# Altium footprint library PCB封装库.PcbLib: 54 footprints (part 3 of 4)
Each footprint in its own frame and in the unit in brackets; x right, y up, seen from the top. Pads: shape width x height; smd on the part's side, far side on the other; paste and mask are expansions set on the pad; w line width, h text height; cw(c..) or ccw(c..) is an arc to the next point about the centre after c.
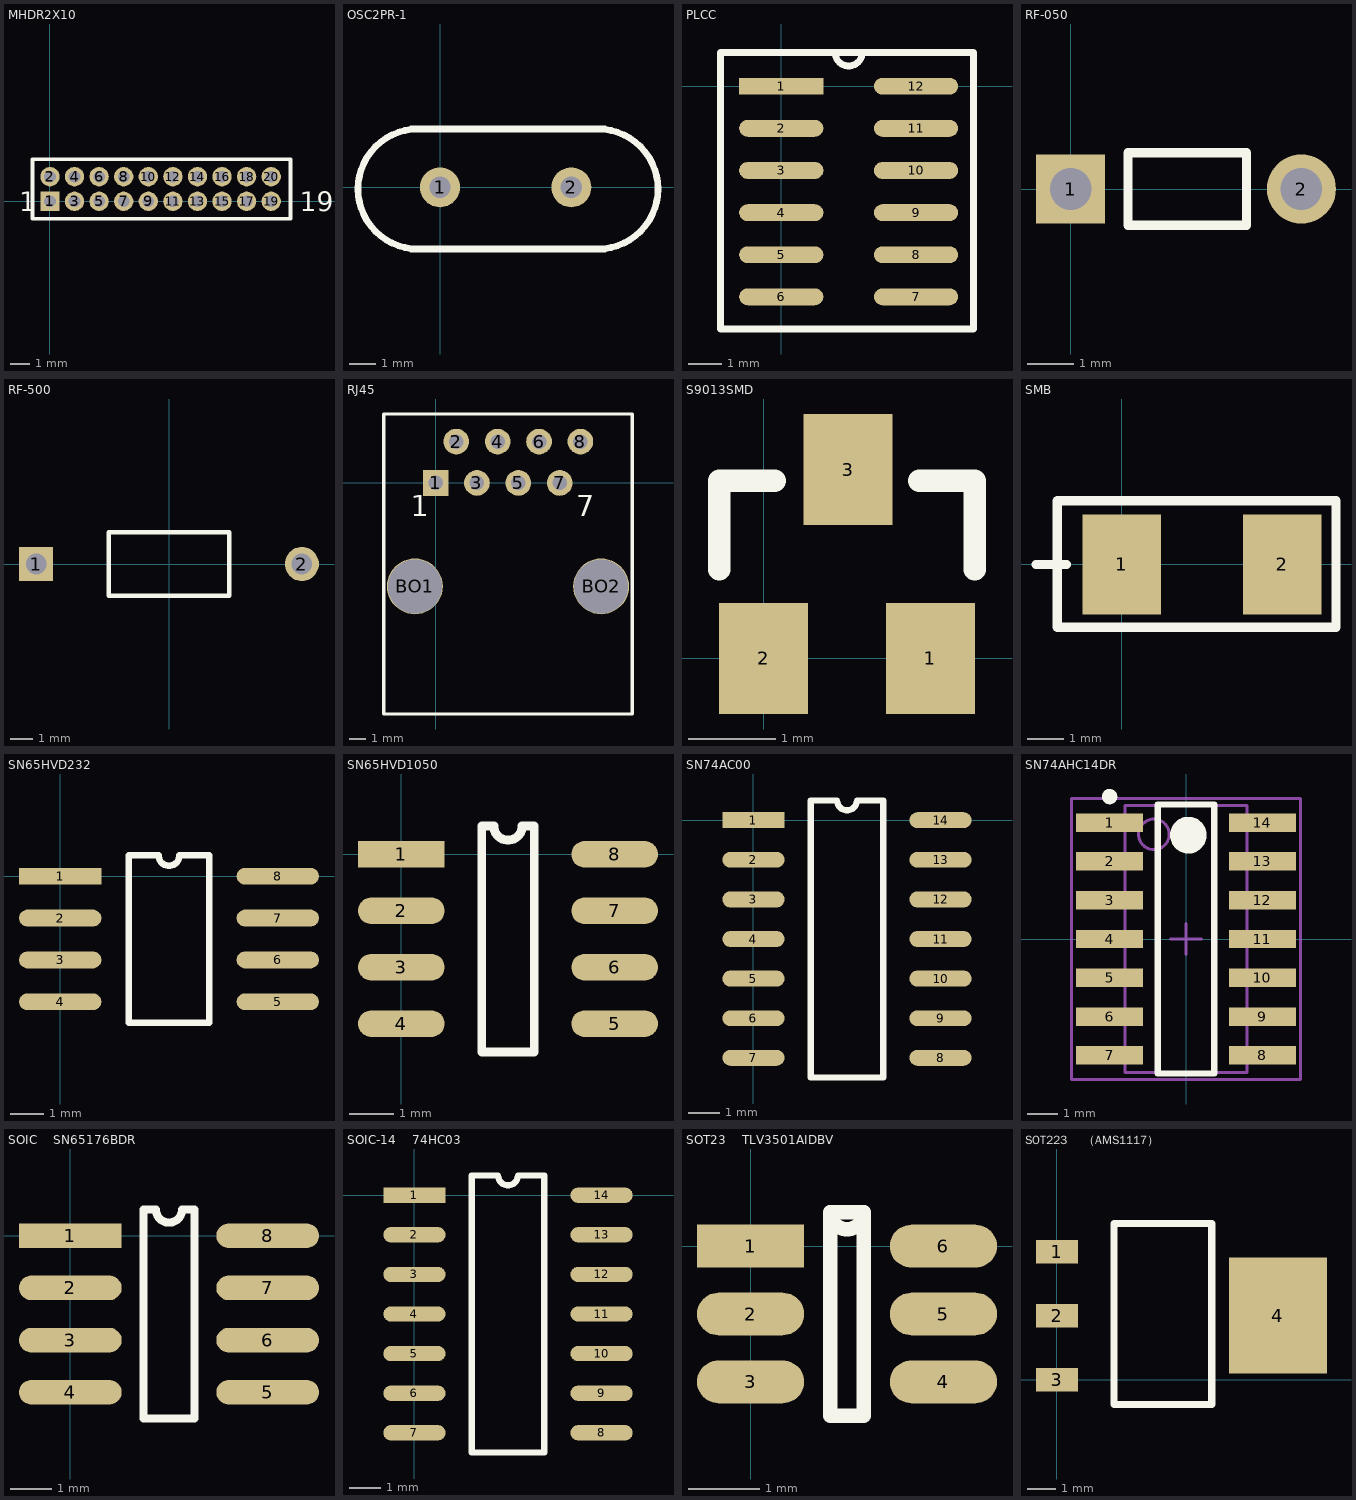
[diagram p2: the footprints below, top view; thin cyan lines are the x and y axes]

## MHDR2X10 [mm] "Connector; Header; 10x2 Position"
pads (20):
  rect 1x1 hole 0.6: 1(0,0)
  round 1 hole 0.6: 2(0,1.27) 3(1.27,0) 4(1.27,1.27) 5(2.54,0) 6(2.54,1.27) 7(3.81,0) 8(3.81,1.27) 9(5.08,0) 10(5.08,1.27) 11(6.35,0) 12(6.35,1.27) 13(7.62,0) 14(7.62,1.27) 15(8.89,0) 16(8.89,1.27) 17(10.16,0) 18(10.16,1.27) 19(11.43,0) 20(11.43,1.27)
Top Overlay:
  lines w0.2: -0.9,-0.9 12.43,-0.9 12.43,2.17 -0.9,2.17 -0.9,-0.9
  text "1" at -1.6,-0.508 h1
  text "19" at 12.9,-0.508 h1

## OSC2PR-1 [mil]
pads (2):
  round 60 hole 32: 1(-0.32,-0.02) 2(196.69,-0.02)
Top Overlay:
  lines w10: -43.31,-92.52 246.69,-92.52 ; -43.31,87.48 246.69,87.48 ; -33.32,-92.52 cw(c-33.31,-2.52) -33.31,87.48 ; 236.68,-92.52 ccw(c236.69,-2.52) 236.69,87.48

## PLCC [mm]
pads (12):
  rect 2.5x0.5 smd: 1(0,0)
  oval 2.5x0.5 smd: 2(0,-1.25) 3(0,-2.5) 4(0,-3.75) 5(0,-5) 6(0,-6.25) 7(4,-6.25) 8(4,-5) 9(4,-3.75) 10(4,-2.5) 11(4,-1.25) 12(4,0)
Top Overlay:
  lines w0.2: 1.598,1 ccw(c1.999,1) 2.4,1 ; 1.687,1 5.7,1 5.7,-7.2 -1.8,-7.2 -1.8,1 2.312,1

## RF-050 [mm] "Fuse; 2 Leads"
pads (2):
  rect 1.5x1.5 hole 0.9: 1(0,0)
  round 1.5 hole 0.9: 2(5,0)
Top Overlay:
  lines w0.2: 1.245,-0.787 1.245,0.787 3.81,0.787 3.81,-0.787 1.245,-0.787

## RF-500 [mm] "Fuse; 2 Leads"
pads (2):
  rect 1.5x1.5 hole 0.9: 1(-5.825,0)
  round 1.5 hole 0.9: 2(5.825,0)
Top Overlay:
  lines w0.2: -2.65,-1.4 2.65,-1.4 2.65,1.4 -2.65,1.4 -2.65,-1.4

## RJ45 [mil]
pads (10):
  rect 62x62 hole 35: 1(0,0)
  round 62 hole 35: 2(50,100) 3(100,0) 4(150,100) 5(200,0) 6(250,100) 7(300,0) 8(350,100)
  round 135 hole 129.92: BO1(-50,-250) BO2(400,-250)
Top Overlay:
  lines w8: -125,-558.33 -125,166.67 475,166.67 475,-558.33 -125,-558.33
  text "1" at -60,-80 h50
  text "7" at 340,-80 h50

## S9013SMD [mil]
pads (3):
  rect 40x50 smd: 1(74.98,-0.16) 2(-0.02,-0.16) 3(37.98,84.84)
Top Overlay:
  lines w10: -20.02,39.84 -20.02,79.84 4.98,79.84 ; 69.98,79.84 94.98,79.84 94.98,39.84

## SMB [mil]
pads (2):
  rect 85x107.99 smd: 1(0,0) 2(174.02,0)
Top Overlay:
  lines w10: -93,0 -60,0 ; 230,69 -70,69 -70,-68 232,-68 232,69

## SN65HVD232 [mm]
pads (8):
  rect 2.5x0.51 smd: 1(0,0)
  oval 2.5x0.51 smd: 2(0,-1.27) 3(0,-2.54) 4(0,-3.81) 5(6.6,-3.81) 6(6.6,-2.54) 7(6.6,-1.27) 8(6.6,0)
Top Overlay:
  lines w0.2: 2.085,-4.445 4.515,-4.445 4.515,0.635 3.617,0.635 cw(c3.3,0.635) 2.982,0.635 2.085,0.635 2.085,-4.445

## SN65HVD1050 [mm]
pads (8):
  rect 1.95x0.6 smd: 1(0,0)
  oval 1.95x0.6 smd: 2(0,-1.27) 3(0,-2.54) 4(0,-3.81) 5(4.8,-3.81) 6(4.8,-2.54) 7(4.8,-1.27) 8(4.8,0)
Top Overlay:
  lines w0.2: 1.81,-4.445 1.81,0.635 2.083,0.635 ccw(c2.4,0.635) 2.718,0.635 2.99,0.635 2.99,-4.445 1.81,-4.445

## SN74AC00 [mm]
pads (14):
  rect 2x0.51 smd: 1(0,0)
  oval 2x0.51 smd: 2(0,-1.27) 3(0,-2.54) 4(0,-3.81) 5(0,-5.08) 6(0,-6.35) 7(0,-7.62) 8(6,-7.62) 9(6,-6.35) 10(6,-5.08) 11(6,-3.81) 12(6,-2.54) 13(6,-1.27) 14(6,0)
Top Overlay:
  lines w0.2: 1.835,-8.255 4.165,-8.255 4.165,0.635 3.317,0.635 cw(c3,0.635) 2.682,0.635 1.835,0.635 1.835,-8.255

## SN74AHC14DR [mm]
height 1.75
pads (14):
  rect 2.2x0.6 smd: 1(-2.5,3.81) 2(-2.5,2.54) 3(-2.5,1.27) 4(-2.5,0) 5(-2.5,-1.27) 6(-2.5,-2.54) 7(-2.5,-3.81) 8(2.5,-3.81) 9(2.5,-2.54) 10(2.5,-1.27) 11(2.5,0) 12(2.5,1.27) 13(2.5,2.54) 14(2.5,3.81)
Top Overlay:
  circle w0.6: c0.075,3.4 r0.3
  circle w0.25: c-2.5,4.66 r0.125
  lines w0.2: -0.925,-4.4 0.925,-4.4 0.925,4.4 -0.925,4.4 -0.925,-4.4
Mechanical 13:
  circle w0.1: c-1.05,3.425 r0.5
  lines w0.1: -2,-4.375 2,-4.375 2,4.375 -2,4.375 -2,-4.375
Mechanical 15:
  lines w0.1: -0.5,0 0.5,0 ; 0,-0.5 0,0.5 ; -3.75,-4.6 3.75,-4.6 3.75,4.6 -3.75,4.6 -3.75,-4.6
3D body: height 1.75, standoff 0.25, extent -2,-4.375 2,4.375

## SOIC    SN65176BDR [mm]
pads (8):
  rect 2.5x0.6 smd: 1(0,0)
  oval 2.5x0.6 smd: 2(0,-1.27) 3(0,-2.54) 4(0,-3.81) 5(4.8,-3.81) 6(4.8,-2.54) 7(4.8,-1.27) 8(4.8,0)
Top Overlay:
  lines w0.2: 1.778,-4.445 3.023,-4.445 3.023,0.635 2.718,0.635 cw(c2.4,0.635) 2.083,0.635 1.778,0.635 1.778,-4.445

## SOIC-14    74HC03 [mm]
pads (14):
  rect 2x0.49 smd: 1(0,0)
  oval 2x0.49 smd: 2(0,-1.27) 3(0,-2.54) 4(0,-3.81) 5(0,-5.08) 6(0,-6.35) 7(0,-7.62) 8(6,-7.62) 9(6,-6.35) 10(6,-5.08) 11(6,-3.81) 12(6,-2.54) 13(6,-1.27) 14(6,0)
Top Overlay:
  lines w0.2: 1.835,-8.255 4.165,-8.255 4.165,0.635 3.317,0.635 cw(c3,0.635) 2.682,0.635 1.835,0.635 1.835,-8.255

## SOT23    TLV3501AIDBV [mm]
pads (6):
  rect 1.5x0.6 smd: 1(0,0)
  oval 1.5x0.6 smd: 2(0,-0.95) 3(0,-1.9) 4(2.7,-1.9) 5(2.7,-0.95) 6(2.7,0)
Top Overlay:
  lines w0.2: 1.112,0.475 ccw(c1.35,0.475) 1.587,0.475 1.115,0.475 1.115,-2.375 1.585,-2.375 1.585,0.475 1.112,0.475

## SOT223    （AMS1117） [mm]
pads (4):
  rect 1.5x0.84 smd: 1(0,4.58) 2(0,2.29) 3(0,0)
  rect 3.5x4.15 smd: 4(7.9,2.29)
Top Overlay:
  lines w0.254: 2.032,-0.889 5.532,-0.889 5.532,5.588 2.032,5.588 2.032,-0.889